# EAGLE library part 1273ПА11Т (library dac)
1273ПА11Т − одноканальный 8-разрядный сверхвысокочастотный радиационно-стойкий ЦАП с двумя входными мультиплицируемыми портами. Максимальная входная тактовая частота и частота обновления входных данных составляет 600 МГц. Микросхема включает в себя высокоскоростной ЦАП, источник опорного напряжения, схему умножения частоты с ФАПЧ и схему коррекции фазы сигнала тактирования данных. Микросхема поддерживает частоту обновления выходных данных до 1 200 МГц. Производитель: "НИИЭТ", г. Воронеж.
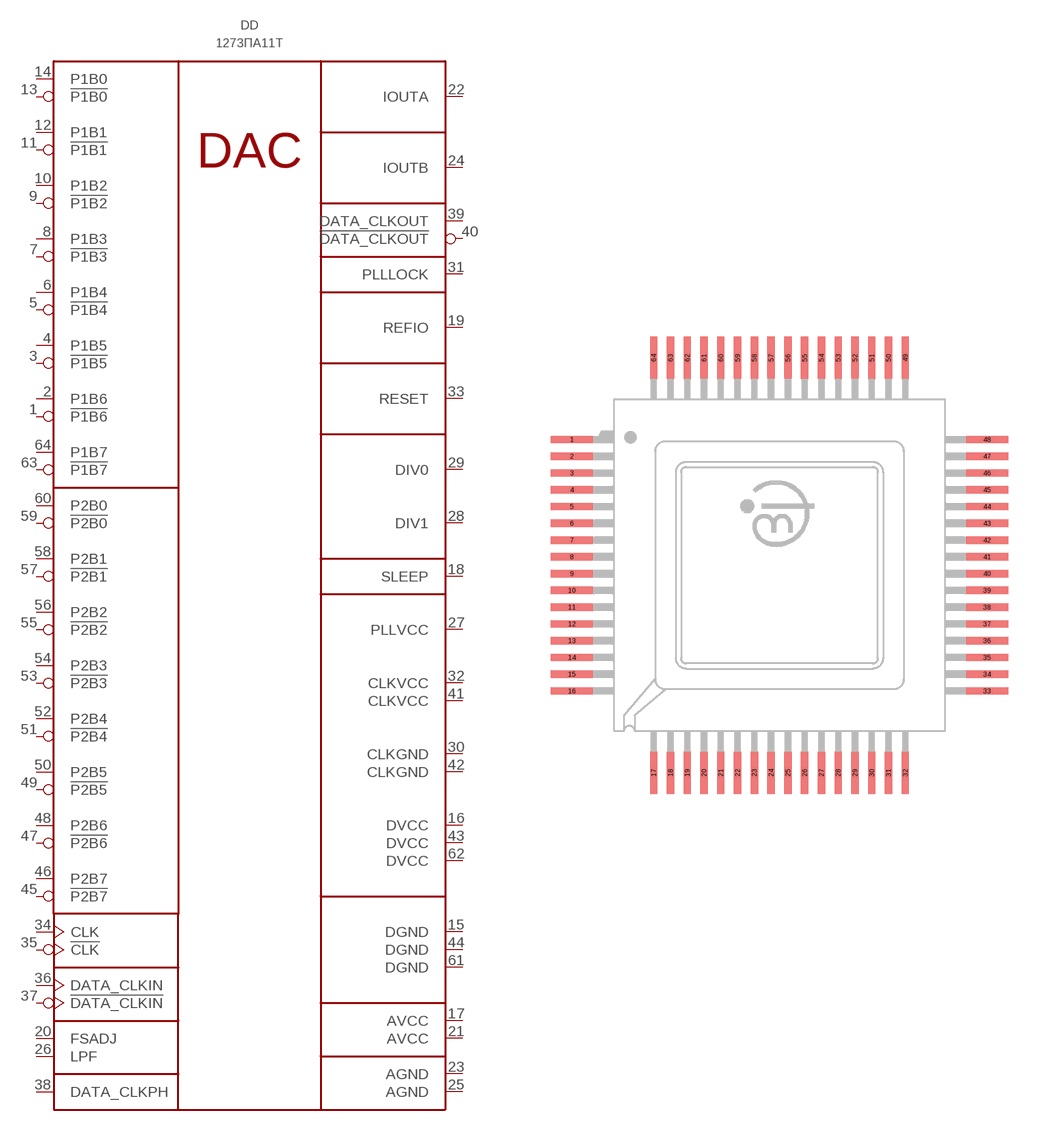
[diagram p1: symbol with the pads of 4203.64-1; footprint 4203.64-1]

Designator prefix DD

## 1273ПА11Т  [4203.64-1]
1  !P1B6  in
2  P1B6  in
3  !P1B5  in
4  P1B5  in
5  !P1B4  in
6  P1B4  in
7  !P1B3  in
8  P1B3  in
9  !P1B2  in
10  P1B2  in
11  !P1B1  in
12  P1B1  in
13  !P1B0  in
14  P1B0  in
15  DGND  pwr
16  DVCC  pwr
17  AVCC  pwr
18  SLEEP  in
19  REFIO
20  FSADJ  in
21  AVCC  pwr
22  IOUTA  out
23  AGND  pwr
24  IOUTB  out
25  AGND  pwr
26  LPF  in
27  PLLVCC  pwr
28  DIV1  in
29  DIV0  in
30  CLKGND  pwr
31  PLLLOCK  out
32  CLKVCC  pwr
33  RESET  in
34  CLK  in
35  !CLK  in
36  DATA_CLKIN  in
37  !DATA_CLKIN  in
38  DATA_CLKPH  in
39  DATA_CLKOUT  out
40  !DATA_CLKOUT  out
41  CLKVCC  pwr
42  CLKGND  pwr
43  DVCC  pwr
44  DGND  pwr
45  !P2B7  in
46  P2B7  in
47  !P2B6  in
48  P2B6  in
49  !P2B5  in
50  P2B5  in
51  !P2B4  in
52  P2B4  in
53  !P2B3  in
54  P2B3  in
55  !P2B2  in
56  P2B2  in
57  !P2B1  in
58  P2B1  in
59  !P2B0  in
60  P2B0  in
61  DGND  pwr
62  DVCC  pwr
63  !P1B7  in
64  P1B7  in

## Footprint 4203.64-1 (pad centres in mm)
smd 2 x 0.35: 1 -9.9,6; 2 -9.9,5.2; 3 -9.9,4.4; 4 -9.9,3.6; 5 -9.9,2.8; 6 -9.9,2; 7 -9.9,1.2; 8 -9.9,0.4; 9 -9.9,-0.4; 10 -9.9,-1.2; 11 -9.9,-2; 12 -9.9,-2.8; 13 -9.9,-3.6; 14 -9.9,-4.4; 15 -9.9,-5.2; 16 -9.9,-6; 33 9.9,-6; 34 9.9,-5.2; 35 9.9,-4.4; 36 9.9,-3.6; 37 9.9,-2.8; 38 9.9,-2; 39 9.9,-1.2; 40 9.9,-0.4; 41 9.9,0.4; 42 9.9,1.2; 43 9.9,2; 44 9.9,2.8; 45 9.9,3.6; 46 9.9,4.4; 47 9.9,5.2; 48 9.9,6
smd 0.35 x 2: 17 -6,-9.9; 18 -5.2,-9.9; 19 -4.4,-9.9; 20 -3.6,-9.9; 21 -2.8,-9.9; 22 -2,-9.9; 23 -1.2,-9.9; 24 -0.4,-9.9; 25 0.4,-9.9; 26 1.2,-9.9; 27 2,-9.9; 28 2.8,-9.9; 29 3.6,-9.9; 30 4.4,-9.9; 31 5.2,-9.9; 32 6,-9.9; 49 6,9.9; 50 5.2,9.9; 51 4.4,9.9; 52 3.6,9.9; 53 2.8,9.9; 54 2,9.9; 55 1.2,9.9; 56 0.4,9.9; 57 -0.4,9.9; 58 -1.2,9.9; 59 -2,9.9; 60 -2.8,9.9; 61 -3.6,9.9; 62 -4.4,9.9; 63 -5.2,9.9; 64 -6,9.9